# Altium footprint library PcbLib1.PcbLib: 123 footprints (part 1 of 8)
Each footprint in its own frame and in the unit in brackets; x right, y up, seen from the top. Pads: shape width x height; smd on the part's side, far side on the other; paste and mask are expansions set on the pad; w line width, h text height; cw(c..) or ccw(c..) is an arc to the next point about the centre after c.
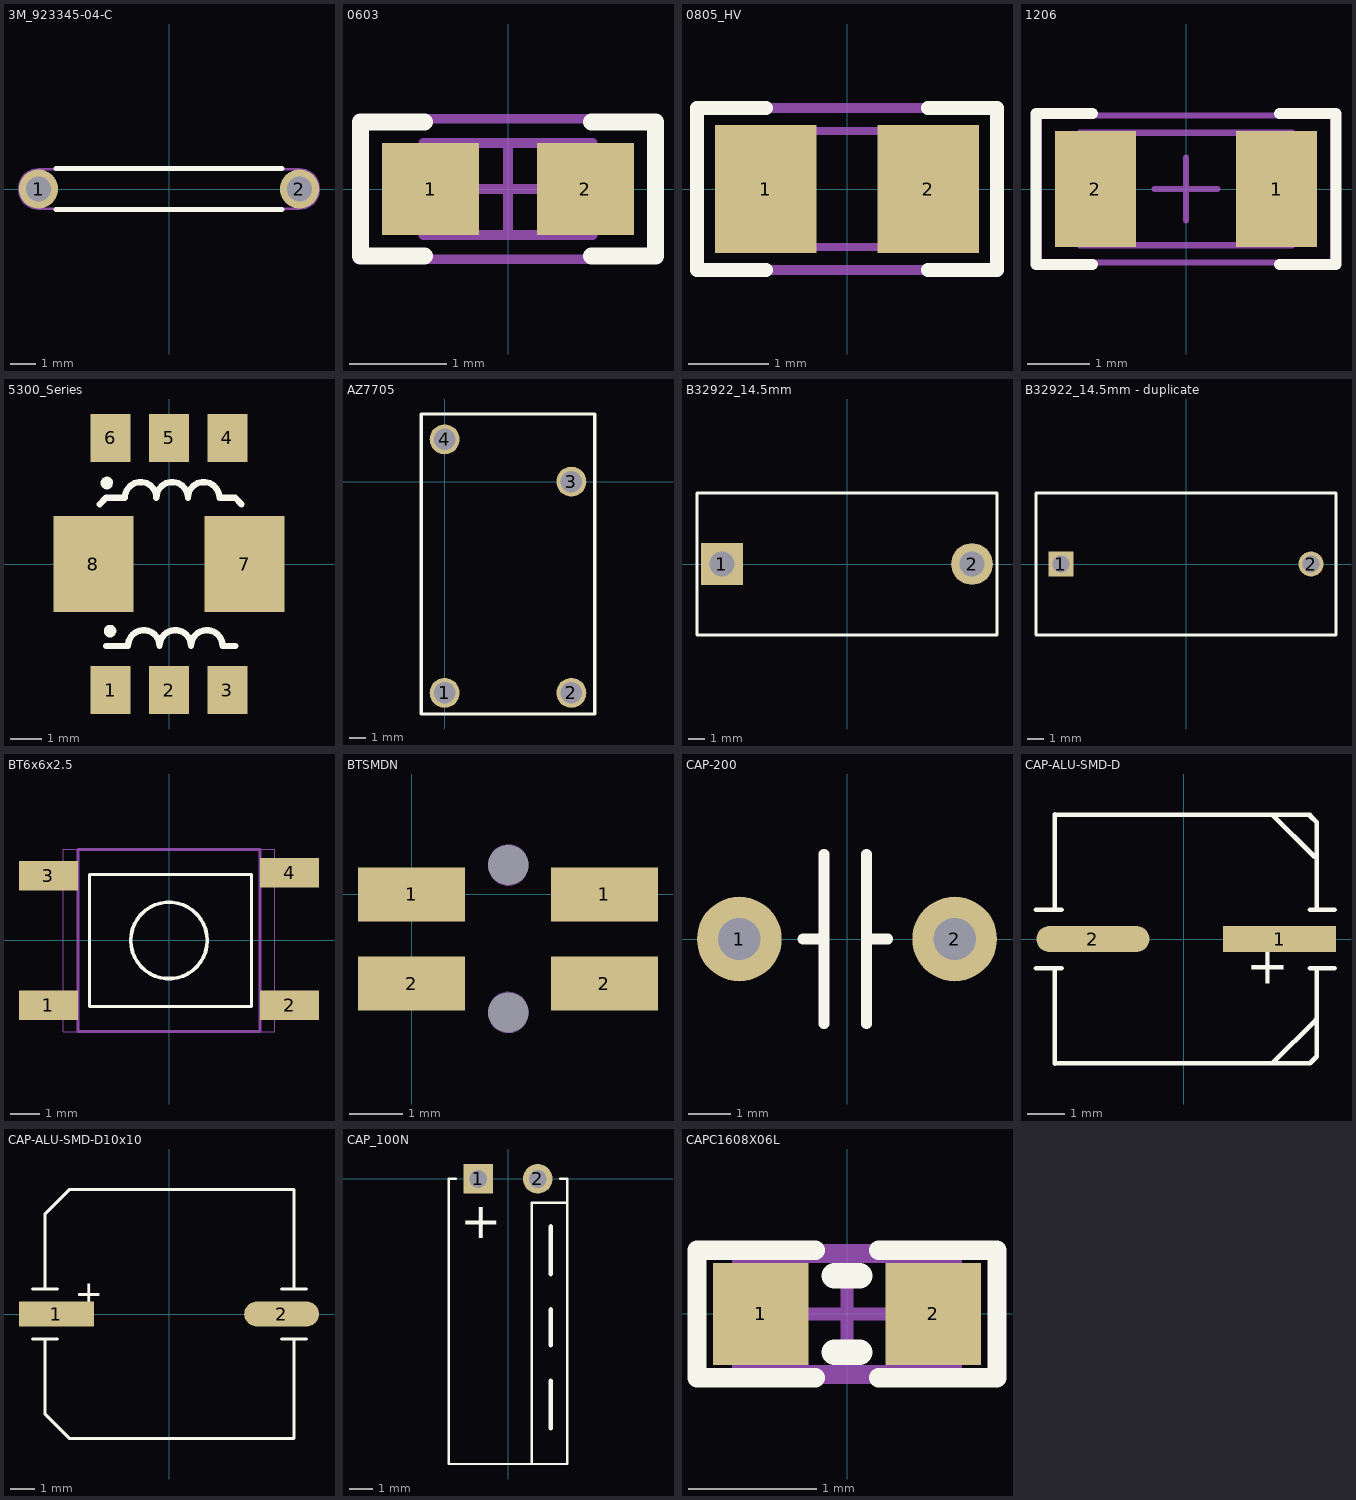
[diagram p0: the footprints below, top view; thin cyan lines are the x and y axes]

## 3M_923345-04-C [mil] "Jumper Wire, 400 mil Spacing, Yellow, Pkg of 200"
height 80
pads (2):
  round 60 hole 38: 1(-200,0) 2(200,0)
Top Overlay:
  lines w7.87: -173.23,-31.5 173.23,-31.5 ; -173.23,31.5 173.23,31.5
Mechanical 5:
  lines w3.94: -200,-30 cw(c-200,0) -200,30 200,30 cw(c200,0) 200,-30 -200,-30
3D body: height 65, standoff 35, extent -214.85,-14.89 -185.01,14.98
3D body: height 65, standoff 35, extent 185.16,-14.93 215,14.94
3D body: height 50, standoff -98.43, extent 185,-14.97 214.88,14.97
3D body: height 50, standoff -98.43, extent -214.88,-14.96 -185,14.98
3D body: height 64.88, standoff 35, extent -200,-14.97 200,14.97
3D body: height 79.76, standoff 20, extent -180,-29.94 180,29.94

## 0603 [mm] "0603 from SM-752 data"
height 1
pads (2):
  rect 1x0.95 smd: 1(-0.8,0) 2(0.8,0)
Top Overlay:
  lines w0.178: -0.864,-0.691 -1.524,-0.691 -1.524,0.693 -0.864,0.693 ; 0.864,-0.691 1.524,-0.691 1.524,0.693 0.864,0.693
Mechanical 5:
  lines w0.1: -1.55,-0.725 1.55,-0.725 1.55,0.725 -1.55,0.725 -1.55,-0.725
Mechanical 13:
  lines w0.1: -0.55,-0.475 -0.55,0.475 ; 0.55,-0.475 0.55,0.475 ; -0.875,-0.475 -0.875,0.475 0.875,0.475 0.875,-0.475 -0.875,-0.475
Mechanical 15:
  lines w0.1: -0.475,0 0.475,0 ; 0,-0.475 0,0.475 ; -1.55,-0.725 -1.55,0.725 1.55,0.725 1.55,-0.725 -1.55,-0.725
3D body: height 1, standoff 0, extent 0.551,-0.474 0.874,0.474
3D body: height 1, standoff 0, extent -0.549,-0.474 0.549,0.474
3D body: height 1, standoff 0, extent -0.874,-0.474 -0.551,0.474

## 0805_HV [mil] "0805 with 30mil clearance between pads"
height 57.09
pads (2):
  rect 50x63 smd: 1(-40,0) 2(40,0)
Top Overlay:
  lines w7: -40,-40 -74,-40 -74,0 -74,40 -40,40 ; 40,-40 74,-40 74,0 74,40 40,40
Mechanical 5:
  lines w5: -74,-40 74,-40 74,40 -74,40 -74,-40
Mechanical 13:
  lines w3.94: -25.59,-28.54 -25.59,28.54 ; 25.59,-28.54 25.59,28.54 ; -43.31,-28.54 43.31,-28.54 43.31,28.54 -43.31,28.54 -43.31,-28.54
3D body: height 57.09, standoff 0, extent -43.29,-28.52 -25.61,28.52
3D body: height 57.09, standoff 0, extent -25.57,-28.52 25.57,28.52
3D body: height 57.09, standoff 0, extent 25.61,-28.52 43.29,28.52

## 1206 [mm] "1206 from SM-752 data"
height 1.35
pads (2):
  rect 1.3x1.85 smd: 1(1.45,0) 2(-1.45,0)
Top Overlay:
  lines w0.178: -1.5,-1.21 -2.4,-1.21 -2.4,1.21 -1.5,1.21 ; 1.5,-1.21 2.4,-1.21 2.4,1.21 1.5,1.21
Mechanical 5:
  lines w0.1: -1.7,-0.9 -1.7,0.9 1.7,0.9 1.7,-0.9 -1.7,-0.9
Mechanical 13:
  lines w0.1: -1.2,-0.9 -1.2,0.9 ; 1.2,-0.9 1.2,0.9 ; -1.7,-0.9 -1.7,0.9 1.7,0.9 1.7,-0.9 -1.7,-0.9
Mechanical 15:
  lines w0.1: -0.5,0 0.5,0 ; 0,-0.5 0,0.5 ; -2.35,-1.175 -2.35,1.175 2.35,1.175 2.35,-1.175 -2.35,-1.175
3D body: height 1.35, standoff 0, extent -1.699,-0.899 -1.201,0.899
3D body: height 1.35, standoff 0, extent -1.199,-0.899 1.199,0.899
3D body: height 1.35, standoff 0, extent 1.201,-0.899 1.699,0.899

## 5300_Series [mm] "Current Sensing Transformers"
pads (8):
  rect 1.27x1.52 smd: 1(-1.85,-4) 2(0,-4) 3(1.85,-4) 4(1.85,4) 5(0,4) 6(-1.85,4)
  rect 2.54x3.05 smd: 7(2.4,0) 8(-2.4,0)
Top Overlay:
  lines w0.2: -2.2,1.9 -2,2.1 -1.4,2.1 cw(c-0.9,2.1) -0.4,2.1 cw(c0.1,2.1) 0.6,2.1 cw(c1.1,2.1) 1.6,2.1 2.1,2.1 2.3,1.9 ; -2,-2.6 -1.3,-2.6 cw(c-0.8,-2.6) -0.3,-2.6 cw(c0.2,-2.6) 0.7,-2.6 cw(c1.2,-2.6) 1.7,-2.6 2.1,-2.6 ; -1.9,2.5 cw(c-1.971,2.571) -1.871,2.571 ; -1.8,-2.2 cw(c-1.871,-2.129) -1.771,-2.129

## AZ7705 [mm] "AZ7705"
height 1
pads (4):
  round 1.8 hole 1.3: 1(0,-12.7) 2(7.62,-12.7) 3(7.62,0) 4(0,2.54)
Top Overlay:
  lines w0.2: -1.397,-13.97 -1.397,4.064 9.017,4.064 9.017,-13.97 -1.397,-13.97
3D body: height 15, standoff -4, extent -1.29,-13.799 8.91,4.401

## B32922_14.5mm [mm] "Epcos film capacitors, 15mm spacing"
height 14.5
pads (2):
  rect 2.5x2.5 hole 1.5: 1(-7.5,0)
  round 2.5 hole 1.5: 2(7.5,0)
Top Overlay:
  lines w0.178: -9,-4.25 0,-4.25 9,-4.25 9,0 9,4.25 0,4.25 -9,4.25 -9,0 -9,-4.25
Mechanical 5:
  lines w0.127: -9,-4.25 -9,0 -9,4.25 0,4.25 9,4.25 9,0 9,-4.25 0,-4.25 -9,-4.25
3D body: height 14.5, standoff 0, extent -8.999,-4.249 8.999,4.249

## B32922_14.5mm - duplicate [mm] "Epcos film capacitors, 15mm spacing"
height 14.5
pads (2):
  rect 1.5x1.5 hole 1: 1(-7.5,0)
  round 1.5 hole 1: 2(7.5,0)
Top Overlay:
  lines w0.178: -9,-4.25 0,-4.25 9,-4.25 9,0 9,4.25 0,4.25 -9,4.25 -9,0 -9,-4.25
Mechanical 5:
  lines w0.127: -9,-4.25 -9,0 -9,4.25 0,4.25 9,4.25 9,0 9,-4.25 0,-4.25 -9,-4.25
3D body: height 14.5, standoff 0, extent -8.999,-4.249 8.999,4.249

## BT6x6x2.5 [mm] "6x6x2.5"
height 2.5
pads (4):
  rect 2x1 smd: 1(-4.1,-2.2) 2(4.1,-2.2) 3(-4.1,2.2) 4(4.1,2.3)
Top Overlay:
  circle w0.127: c0,0 r1.3
  lines w0.1: -2.7,-2.25 -2.7,2.25 2.8,2.25 2.8,-2.25 -2.7,-2.25
Mechanical 1:
  lines w0.013: -3.6,-3.1 3.6,-3.1 3.6,3.1 -3.6,3.1 -3.6,-3.1
  lines w0.1: -3.1,-3.1 -3.1,3.1 3.1,3.1 3.1,-3.1 -3.1,-3.1

## BTSMDN [mm]
pads (6):
  rect 2x1 smd: 1(0,0) 1(3.6,0) 2(0,-1.662) 2(3.6,-1.662)
  round 0 hole 0.75 paste+0: 5(1.806,0.549) 6(1.806,-2.201)
Mechanical 1:
  circle w0.013: c1.806,-2.201 r0.375
  circle w0.013: c1.806,0.549 r0.375
  lines w0.013: -0.464,-1.976 -0.816,-1.976 ; -0.464,-1.376 -0.816,-1.376 ; -0.464,-0.276 -0.816,-0.276 ; -0.464,0.324 -0.816,0.324 ; 4.076,-1.976 4.429,-1.976 ; 4.076,-1.376 4.429,-1.376 ; 4.076,-0.276 4.429,-0.276 ; 4.076,0.324 4.429,0.324 ; -0.816,-1.976 -0.816,-1.376 ; -0.816,-1.976 -0.946,-1.976 -0.946,-1.376 -0.816,-1.376 ; -0.816,-0.276 -0.816,0.324 ; -0.816,-0.276 -0.946,-0.276 -0.946,0.324 -0.816,0.324 ; 4.429,-1.976 4.429,-1.376 ; 4.429,-1.976 4.559,-1.976 4.559,-1.376 4.429,-1.376 ; 4.429,-0.276 4.429,0.324 ; 4.429,-0.276 4.559,-0.276 4.559,0.324 4.429,0.324
3D body: height 1.66, standoff -0.49, extent -0.962,-2.583 4.544,1.917

## CAP10x10 [mm]

## CAP-200 [mm]
pads (2):
  round 2 hole 1: 1(-2.54,0) 2(2.54,0)
Top Overlay:
  lines w0.254: -1.04,0 -0.54,0 ; -0.54,-2 -0.54,2 ; 0.46,-2 0.46,2 ; 0.46,0 0.96,0

## CAP-ALU-SMD-D [mm]
height 4
pads (2):
  rect 3x0.7 smd: 1(2.54,0)
  oval 3x0.7 smd: 2(-2.413,0)
Top Overlay:
  lines w0.127: -3.925,-0.775 -3.25,-0.775 ; -3.925,0.775 -3.25,0.775 ; -3.429,-0.775 -3.429,-3.302 3.35,-3.3 3.531,-3.119 3.531,-0.775 ; -3.429,0.775 -3.429,3.302 -3.427,3.3 3.35,3.3 ; 2.35,-3.3 3.511,-2.139 ; 2.35,3.3 3.46,2.19 ; 3.35,-0.775 4,-0.775 ; 3.35,0.775 4,0.775 ; 3.35,3.277 3.531,3.097 3.531,0.775 ; 3.35,3.3 3.35,3.3
  text "+" at 2.8,-0.325 h1
3D body: height 5.4, standoff 0, extent -3.5,-3.3 3.5,3.3

## CAP-ALU-SMD-D10x10 [mm]
height 4
pads (2):
  rect 3x1 smd: 1(-4.54,0)
  oval 3x1 smd: 2(4.5,0)
Top Overlay:
  lines w0.127: -5.5,-1 -4.5,-1 ; -5.5,1 -4.5,1 ; -5,-1 -5,-4 -4,-5 5,-5 5,-1 ; -5,1 -5,4 -4,5 5,5 5,1 ; 4.5,-1 5.5,-1 ; 4.5,1 5.5,1
  text "+" at -3.8,0.325 h1
3D body: height 5.4, standoff 0, extent -3.5,-3.3 3.5,3.3

## CAP_100N [mm] "PANASONIC"
height 11.2
pads (2):
  rect 1.25x1.25 hole 0.75: 1(-1.25,0)
  round 1.25 hole 0.75: 2(1.25,0)
Top Overlay:
  lines w0.1: -2.2,0 -2.5,0 -2.5,-12 2.5,-12 2.5,0 2.2,0 ; 1,-12 1,-1 2.5,-1
  lines w0.2: 1.8,-10.5 1.8,-8.5 ; 1.8,-7 1.8,-5.5 ; 1.8,-4 1.8,-2
  text "+" at -2,-2.5 h1.52

## CAPC1608X06L [mm] "Chip Capacitor, 2-Leads, Body 1.6x0.8mm, IPC High Density"
height 0.55
pads (2):
  rect 0.75x0.8 smd: 1(-0.675,0) 2(0.675,0)
Top Overlay:
  lines w0.152: -0.25,-0.5 -1.175,-0.5 -1.175,0.5 -0.25,0.5 ; 0.25,-0.5 1.175,-0.5 1.175,0.5 0.25,0.5
  lines w0.2: -0.1,-0.3 0.1,-0.3 ; -0.1,0.3 0.1,0.3
Mechanical 13:
  lines w0.1: -0.85,-0.45 0.85,-0.45 0.85,0.45 -0.85,0.45 -0.85,-0.45
Mechanical 15:
  lines w0.1: -0.45,0 0.45,0 ; 0,-0.45 0,0.45 ; -1.175,-0.5 -1.175,0.5 1.175,0.5 1.175,-0.5 -1.175,-0.5
3D body: height 0.8, standoff 0, extent -0.8,-0.43 0.8,0.43